# Altium schematic symbol library PWM_Controller_Half_Bridge_IR2110.SchLib: 1 symbol
Pins are listed as number, name and electrical type; pins without a type are passive.

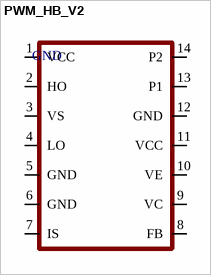
[diagram p0: symbol PWM_HB_V2]

## PWM_HB_V2
designator GND
footprint PWM_HB_V2
pins: 1 VCC, 2 HO, 3 VS, 4 LO, 5 GND, 6 GND, 7 IS, 8 FB, 9 VC, 10 VE, 11 VCC, 12 GND, 13 P1, 14 P2